# EAGLE library part M13X2 (library PR_Parts_Library)
0.1" spaced headers
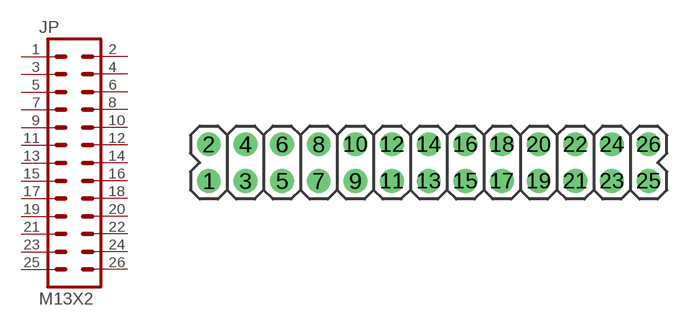
[diagram p6: symbol with the pads of 2X13; footprint 2X13]

Designator prefix JP

## M13X22X13  [2X13]
1  3V3
2  5V  pas
3  GPIO3  pas
4  DNC1  pas
5  GPIO5  pas
6  GND  pas
7  GPIO7  pas
8  GPIO8  pas
9  DNC2  pas
10  GPIO10  pas
11  GPIO11  pas
12  GPIO12  pas
13  GPIO13  pas
14  DNC3  pas
15  GPIO15  pas
16  GPIO16  pas
17  DNC4  pas
18  GPIO18  pas
19  GPIO19  pas
20  DNC5  pas
21  GPIO21  pas
22  GPIO22  pas
23  GPIO23  pas
24  GPIO24  pas
25  DNC6  pas
26  GPIO26  pas

## Footprint 2X13 (pad centres in mm)
drill 1.016 pad 1.651: 1 0,0; 2 0,2.54; 3 2.54,0; 4 2.54,2.54; 5 5.08,0; 6 5.08,2.54; 7 7.62,0; 8 7.62,2.54; 9 10.16,0; 10 10.16,2.54; 11 12.7,0; 12 12.7,2.54; 13 15.24,0; 14 15.24,2.54; 15 17.78,0; 16 17.78,2.54; 17 20.32,0; 18 20.32,2.54; 19 22.86,0; 20 22.86,2.54; 21 25.4,0; 22 25.4,2.54; 23 27.94,0; 24 27.94,2.54; 25 30.48,0; 26 30.48,2.54